# Altium schematic symbol library POWER_LORA.SchLib: 9 symbols
Pins are listed as number, name and electrical type; pins without a type are passive.

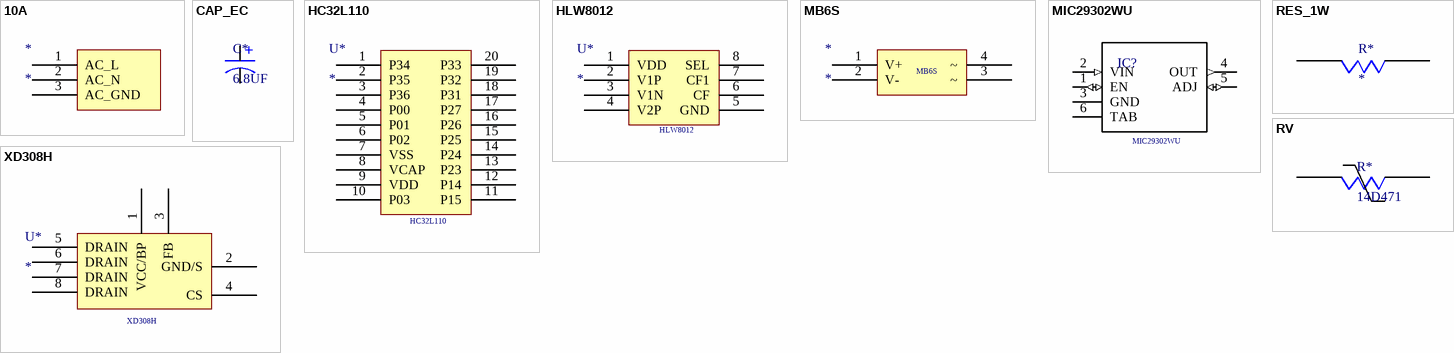
[diagram p0: symbols 10A to XD308H]

## 10A
designator *
footprint 105dm
pins: 1 AC_L, 2 AC_N, 3 AC_GND

## CAP_EC
designator C*, comment 6.8UF
footprint SMD-EC-F12.5
pins: 1, 2
text: +

## HC32L110
designator U*
footprint ssop-20
pins: 1 P34, 2 P35, 3 P36, 4 P00, 5 P01, 6 P02, 7 VSS, 8 VCAP, 9 VDD, 10 P03, 11 P15, 12 P14, 13 P23, 14 P24, 15 P25, 16 P26, 17 P27, 18 P31, 19 P32, 20 P33

## HLW8012
designator U*
footprint SOP8
pins: 1 VDD, 2 V1P, 3 V1N, 4 V2P, 5 GND, 6 CF, 7 CF1, 8 SEL

## MB6S
designator *
footprint SOP-4
pins: 1 V+, 2 V-, 3 ~, 4 ~

## MIC29302WU
designator IC?  (value not drawn)
IC REG LDO ADJ 3A TO263-5; Manufacturer: Microchip Technology; Manufacturer Part Number: MIC29302AWU; Digi-Key Part Number: 576-4072-ND; Supplier Device Package: TO-263-5
footprint TO263-5
pins: 1 EN (io), 2 VIN (in), 3 GND (power), 4 OUT (out), 5 ADJ (io), 6 TAB

## RES_1W
designator R*
水泥绕线电阻
pins: 0, 1

## RV
designator R*, comment 14D471
压敏电阻
footprint 07D471
pins: 1, 2

## XD308H
designator U*
footprint SOP8
pins: 1 VCC/BP, 2 GND/S, 3 FB, 4 CS, 5 DRAIN, 6 DRAIN, 7 DRAIN, 8 DRAIN